# EAGLE library part AK9750 (library SparkFun-Sensors)
AK9750 Human Movement Sensor
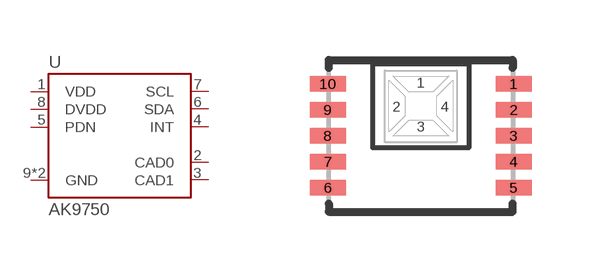
[diagram p36: symbol with the pads of SON10; footprint SON10]

Designator prefix U

## AK9750 (PROD_ID: SEN-13737; VALUE: AK9750)  [SON10]
1  VDD
2  CAD0
3  CAD1
4  INT
5  PDN
6  SDA
7  SCL
8  DVDD
9  GND
10  GND

## Footprint SON10 (pad centres in mm)
smd 0.9 x 0.38: 1 2.325,1.3; 2 2.325,0.65; 3 2.325,0; 4 2.325,-0.65; 5 2.325,-1.3; 6 -2.325,-1.3; 7 -2.325,-0.65; 8 -2.325,0; 9 -2.325,0.65; 10 -2.325,1.3